# Altium schematic symbol library PowerDetectors.SchLib: 12 symbols
Pins are listed as number, name and electrical type; pins without a type are passive.

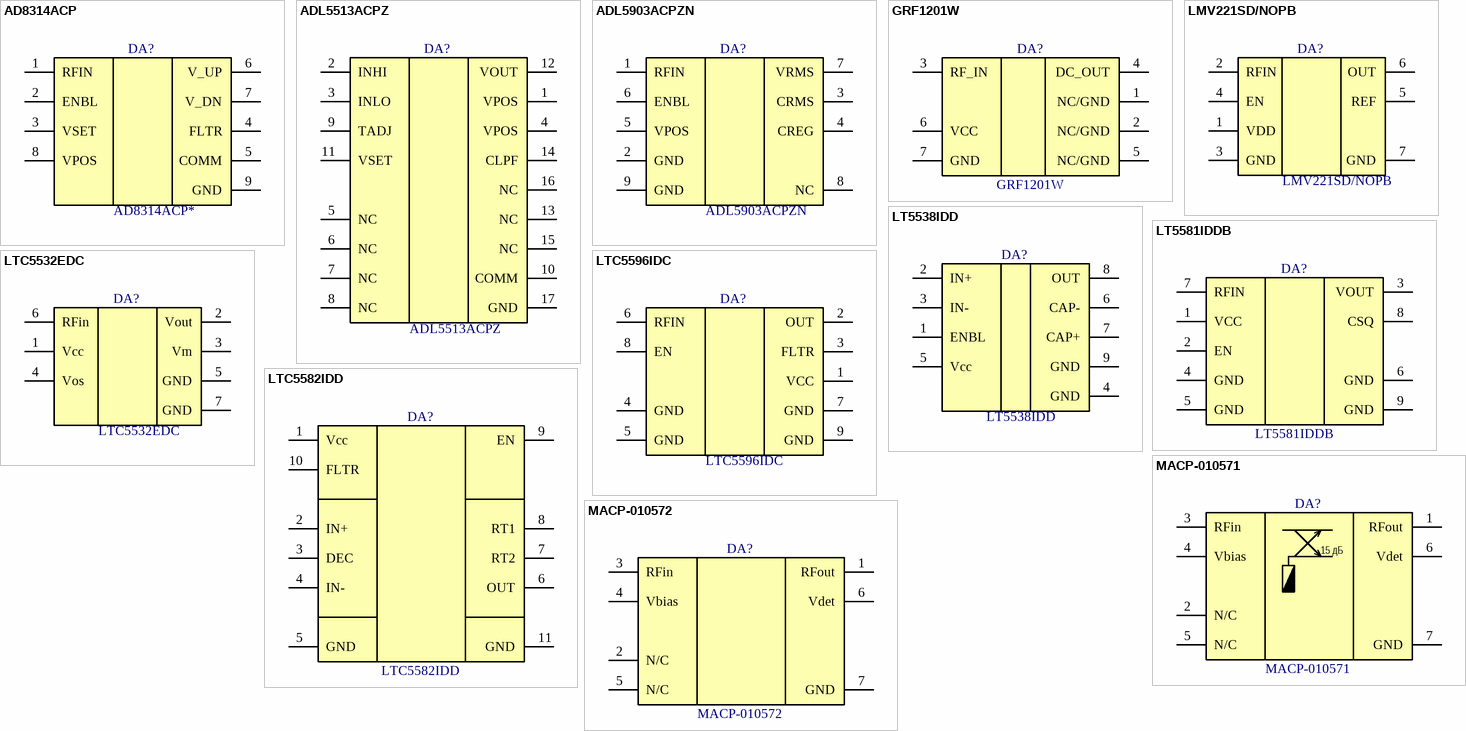
[diagram p0: symbols AD8314ACP to MACP-010572]

## AD8314ACP
designator DA?, comment AD8314ACP*
100 MHz to 2.7 GHz, 45 dB  RF Detector/Controller; Manufacturer: Analog Devices; PartNumber: AD8314ACP*; ComponentLink1Description: Product Page; ComponentLink1URL: https://www.analog.com/en/products/ad8314.html; ComponentLink2Description: DataSheet; ComponentLink2URL: https://www.analog.com/media/en/technical-documentation/data-sheets/ad8314.pdf
footprint SON9P50_300X200X80L42X24T174X45N (Small Outline No-Lead (SON with Tab), 0.50 mm pitch; 8 pin, 3.00 mm L X 2.00 mm W X 0.80 mm H body)
pins: 1 RFIN, 2 ENBL, 3 VSET, 4 FLTR, 5 COMM, 6 V_UP, 7 V_DN, 8 VPOS, 9 GND

## ADL5513ACPZ
designator DA?
1 MHz to 4 GHz, 80 dB Logarithmic Detector/Controller; Manufacturer: Analog Devices; PartNumber: ADL5513ACPZ; ComponentLink1Description: Product Page; ComponentLink1URL: https://www.analog.com/en/products/adl5513.html; ComponentLink2Description: DataSheet; ComponentLink2URL: https://www.analog.com/media/en/technical-documentation/data-sheets/ADL5513.pdf
footprint QFN17P50_300X300X80L40X24T160N (Quad Flat No-Lead (QFN with Tab), 0.50 mm pitch; square, 4 pin X 4 pin, 3.00 mm L X 3.00 mm W X 0.80 mm H body)
pins: 1 VPOS, 2 INHI, 3 INLO, 4 VPOS, 5 NC, 6 NC, 7 NC, 8 NC, 9 TADJ, 10 COMM, 11 VSET, 12 VOUT, 13 NC, 14 CLPF, 15 NC, 16 NC, 17 GND

## ADL5903ACPZN
designator DA?
200 MHz to 6 GHz 35 dB TruPwr™ Detector; Manufacturer: Analog Devices; PartNumber: ADL5903ACPZN; ComponentLink1Description: Product Page; ComponentLink1URL: https://www.analog.com/en/products/adl5903.html; ComponentLink2Description: DataSheet; ComponentLink2URL: https://www.analog.com/media/en/technical-documentation/data-sheets/ADL5903.pdf
footprint SON9P50_200X200X60L35X25T160X100N (Small Outline No-Lead (SON with Tab), 0.50 mm pitch; 8 pin, 2.00 mm L X 2.00 mm W X 0.60 mm H body)
pins: 1 RFIN, 2 GND, 3 CRMS, 4 CREG, 5 VPOS, 6 ENBL, 7 VRMS, 8 NC, 9 GND

## GRF1201W
designator DA?
Log Average Power Detector 0.1 to 6.0 GHz; Manufacturer: Guerilla-RF; PartNumber: GRF1201W; ComponentLink1Description: Product Page; ComponentLink1URL: https://www.guerrilla-rf.com/products/detail/sku/GRF1201-W; ComponentLink2Description: DataSheet; ComponentLink2URL: https://www.guerrilla-rf.com/products/DataSheet?sku=1201-W&file_name=GRF1201WDS.pdf
footprint SON7P50_150X150X50L20X20T110X60N (Small Outline No-Lead (SON with Tab), 0.50 mm pitch; 6 pin, 1.50 mm L X 1.50 mm W X 0.50 mm H body)
pins: 1 NC/GND, 2 NC/GND, 3 RF_IN, 4 DC_OUT, 5 NC/GND, 6 VCC, 7 GND

## LMV221SD/NOPB
designator DA?
50 MHz to 3.5 GHz 40 dB Logarithmic Power Detector for CDMA and WCDMA; Manufacturer: Texas Instruments; PartNumber: LMV221SD/NOPB; ComponentLink1Description: Product Page; ComponentLink1URL: https://www.ti.com/product/LMV221; ComponentLink2Description: DataSheet; ComponentLink2URL: https://www.ti.com/lit/gpn/lmv221
footprint SON127P600-8N_NGF0006A
pins: 1 VDD, 2 RFIN, 3 GND, 4 EN, 5 REF, 6 OUT, 7 GND

## LT5538IDD
designator DA?
40MHz to 3.8GHz RF Power Detector with 75dB Dynamic Range; Manufacturer: Analog Devices; PartNumber: LT5538IDD; ComponentLink1Description: Product Page; ComponentLink1URL: https://www.analog.com/en/products/lt5538.html; ComponentLink2Description: DataSheet; ComponentLink2URL: https://www.analog.com/media/en/technical-documentation/data-sheets/5538f.pdf
footprint SON9P50_300X300X80L38X25T238X165N (Small Outline No-Lead (SON with Tab), 0.50 mm pitch; 8 pin, 3.00 mm L X 3.00 mm W X 0.80 mm H body)
pins: 1 ENBL, 2 IN+, 3 IN-, 4 GND, 5 Vcc, 6 CAP-, 7 CAP+, 8 OUT, 9 GND

## LT5581IDDB
designator DA?
6GHz RMS Power Detector with 40dB Dynamic Range; Manufacturer: Analog Devices; PartNumber: LT5581IDDB; ComponentLink1Description: Product Page; ComponentLink1URL: https://www.analog.com/en/products/lt5581.html; ComponentLink2Description: DataSheet; ComponentLink2URL: https://www.analog.com/media/en/technical-documentation/data-sheets/5581fb.pdf
footprint LT5581 (DDB Package / 8-Lead Plastic DFN (3mm × 2mm) / (Reference LTC DWG # 05-08-1702 Rev B))
pins: 1 VCC, 2 EN, 3 VOUT, 4 GND, 5 GND, 6 GND, 7 RFIN, 8 CSQ, 9 GND

## LTC5532EDC
designator DA?
Precision 300MHz to 7GHz RF Detector with Gain and Offset Adjustment; Manufacturer: Analog Devices; PartNumber: LTC5532EDC; ComponentLink1Description: Product Page; ComponentLink1URL: https://www.analog.com/en/products/ltc5532.html; ComponentLink2Description: DataSheet; ComponentLink2URL: https://www.analog.com/media/en/technical-documentation/data-sheets/5532f.pdf
footprint SON7P50_200X200X80L38X25T137X56N (Small Outline No-Lead (SON with Tab), 0.50 mm pitch; 6 pin, 2.00 mm L X 2.00 mm W X 0.80 mm H body)
pins: 1 Vcc, 2 Vout, 3 Vm, 4 Vos, 5 GND, 6 RFin, 7 GND

## LTC5582IDD
designator DA?
RMS Power Detector, 40MHz to 10GHz; Manufacturer: Analog Devices; ComponentLink1Description: Product Page; ComponentLink1URL: https://www.analog.com/en/products/ltc5582.html; PartNumber: LTC5582IDD; ComponentLink2Description: DataSheet; ComponentLink2URL: https://www.analog.com/media/en/technical-documentation/data-sheets/LTC5582.pdf
footprint DFN-10
pins: 1 Vcc, 2 IN+, 3 DEC, 4 IN-, 5 GND, 6 OUT, 7 RT2, 8 RT1, 9 EN, 10 FLTR, 11 GND

## LTC5596IDC
designator DA?
100MHz to 40GHz Linear-in-dB RMS Power Detector with 35dB Dynamic Range; Manufacturer: Analog Devices; PartNumber: LTC5596IDC; ComponentLink1Description: Product Page; ComponentLink1URL: https://www.analog.com/en/products/ltc5596.html; ComponentLink2Description: DataSheet; ComponentLink2URL: https://www.analog.com/media/en/technical-documentation/data-sheets/5596f.pdf
footprint SON50P200X80_HS-9N (SON, 8-Leads, Body 2.00x2.00mm, Pitch 0.50mm, Thermal Pad 1.55x0.20mm, IPC Medium Density)
pins: 1 VCC, 2 OUT, 3 FLTR, 4 GND, 5 GND, 6 RFIN, 7 GND, 8 EN, 9 GND

## MACP-010571
designator DA?
Directional Power Detector / 2 - 6 GHz; Manufacturer: MACOM; PartNumber: MACP-010571; ComponentLink1Description: Product Page; ComponentLink1URL: https://www.macom.com/products/product-detail/MACP-010571; ComponentLink2Description: DataSheet; ComponentLink2URL: https://cdn.macom.com/datasheets/MACP-010571.pdf
footprint SON40P150X80_HS-7N (SON, 6-Leads, Body 1.20x1.50mm, Pitch 0.40mm, Thermal Pad 0.85x0.40mm, IPC Medium Density)
pins: 1 RFout, 2 N/C, 3 RFin, 4 Vbias, 5 N/C, 6 Vdet, 7 GND
text: 15 дБ

## MACP-010572
designator DA?
Directional Power Detector / 6 - 18 GHz; Manufacturer: MACOM; PartNumber: MACP-010572; ComponentLink1Description: Product Page; ComponentLink1URL: https://www.macom.com/products/product-detail/MACP-010572; ComponentLink2Description: DataSheet; ComponentLink2URL: https://cdn.macom.com/datasheets/MACP-010572.pdf
footprint MACP-010572
pins: 1 RFout, 2 N/C, 3 RFin, 4 Vbias, 5 N/C, 6 Vdet, 7 GND